# EAGLE library part IMU-6DOF-RAZOR (library Quadcopter)
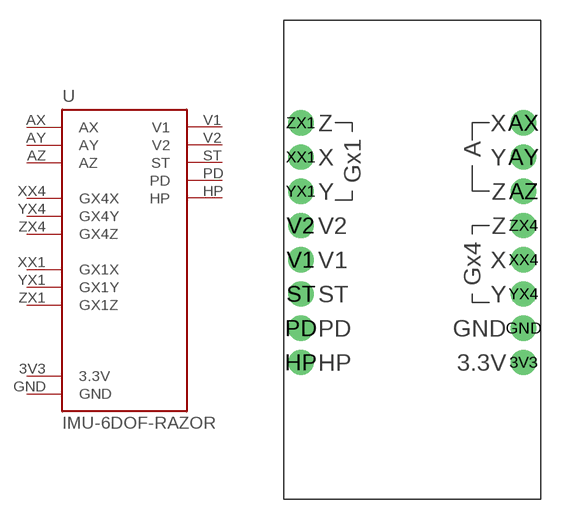
[diagram p0: symbol with the pads of IMU-6DOF-RAZOR; footprint IMU-6DOF-RAZOR]

Designator prefix -

## IMU-6DOF-RAZOR  [IMU-6DOF-RAZOR]
3V3  3.3V  pwr
AX  AX  out
AY  AY  out
AZ  AZ  out
GND  GND  pwr
HP  HP
PD  PD
ST  ST
V1  V1
V2  V2
XX1  GX1X  out
XX4  GX4X  out
YX1  GX1Y  out
YX4  GX4Y  out
ZX1  GX1Z  out
ZX4  GX4Z  out

## Footprint IMU-6DOF-RAZOR (pad centres in mm)
drill 1.016 pad 1.88 round: 3V3 8.255,-8.89; AX 8.255,8.89; AY 8.255,6.35; AZ 8.255,3.81; GND 8.255,-6.35; HP -8.255,-8.89; PD -8.255,-6.35; ST -8.255,-3.81; V1 -8.255,-1.27; V2 -8.255,1.27; XX1 -8.255,6.35; XX4 8.255,-1.27; YX1 -8.255,3.81; YX4 8.255,-3.81; ZX1 -8.255,8.89; ZX4 8.255,1.27